# EAGLE library part SX1262IMLTRT (library ruark2)
IC RF TxRx Only General ISM < 1GHz LoRaWAN 150MHz ~ 960MHz 24-VFQFN Exposed Pad
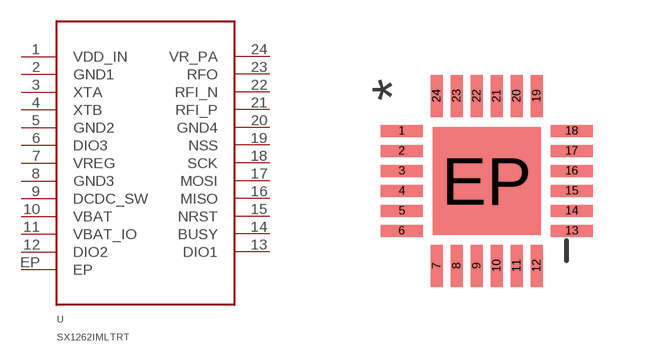
[diagram p94: symbol with the pads of QGN24-44; footprint QGN24-44]

Designator prefix U

## SX1262IMLTRT (PARTNO: SX1262IMLTRTCT-ND)  [QGN24-44]
1  VDD_IN
2  GND1
3  XTA
4  XTB
5  GND2
6  DIO3
7  VREG
8  GND3
9  DCDC_SW
10  VBAT
11  VBAT_IO
12  DIO2
13  DIO1
14  BUSY
15  NRST
16  MISO
17  MOSI
18  SCK
19  NSS
20  GND4
21  RFI_P
22  RFI_N
23  RFO
24  VR_PA
EP  EP

## Footprint QGN24-44 (pad centres in mm)
smd 1.05 x 0.3: 1 -2.125,1.25; 2 -2.125,0.75; 3 -2.125,0.25; 4 -2.125,-0.25; 5 -2.125,-0.75; 6 -2.125,-1.25; 13 2.125,-1.25; 14 2.125,-0.75; 15 2.125,-0.25; 16 2.125,0.25; 17 2.125,0.75; 18 2.125,1.25
smd 0.3 x 1.05: 7 -1.25,-2.125; 8 -0.75,-2.125; 9 -0.25,-2.125; 10 0.25,-2.125; 11 0.75,-2.125; 12 1.25,-2.125; 19 1.25,2.125; 20 0.75,2.125; 21 0.25,2.125; 22 -0.25,2.125; 23 -0.75,2.125; 24 -1.25,2.125
smd 2.7 x 2.7: EP 0,0